# Altium schematic symbol library CWX.SchLib: 1 symbol
Pins are listed as number, name and electrical type; pins without a type are passive.

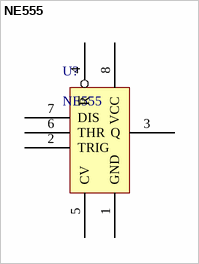
[diagram p0: symbol NE555]

## NE555
designator U?
pins: 1 GND, 2 TRIG, 3 Q, 4 ~{R}, 5 CV, 6 THR, 7 DIS, 8 VCC